# Altium schematic symbol library BCP56.SchLib: 1 symbol
Pins are listed as number, name and electrical type; pins without a type are passive.

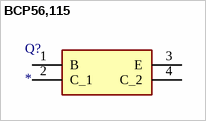
[diagram p0: symbol BCP56,115]

## BCP56,115
designator Q?
Transistor BJT NPN; Manufacturer_Name: Nexperia; Manufacturer_Part_Number: BCP56,115; Description: Nexperia BCP56,115 NPN Transistor; Datasheet Link: https://assets.nexperia.com/documents/data-sheet/BCP56_BCX56_BC56PA.pdf; Height: 1.8mm; Mouser Part Number: 771-BCP56-T/R; Mouser Price/Stock: https://www.mouser.com/Search/Refine.aspx?Keyword=771-BCP56-T%2FR; RS Part Number: 1125453P; RS Price/Stock: http://uk.rs-online.com/web/p/products/1125453P
footprint SOT230P700X180-4N
pins: 1 B, 2 C_1, 3 E, 4 C_2